# Altium integrated library Q-Resistors.IntLib: 917 symbols (part 8 of 8)
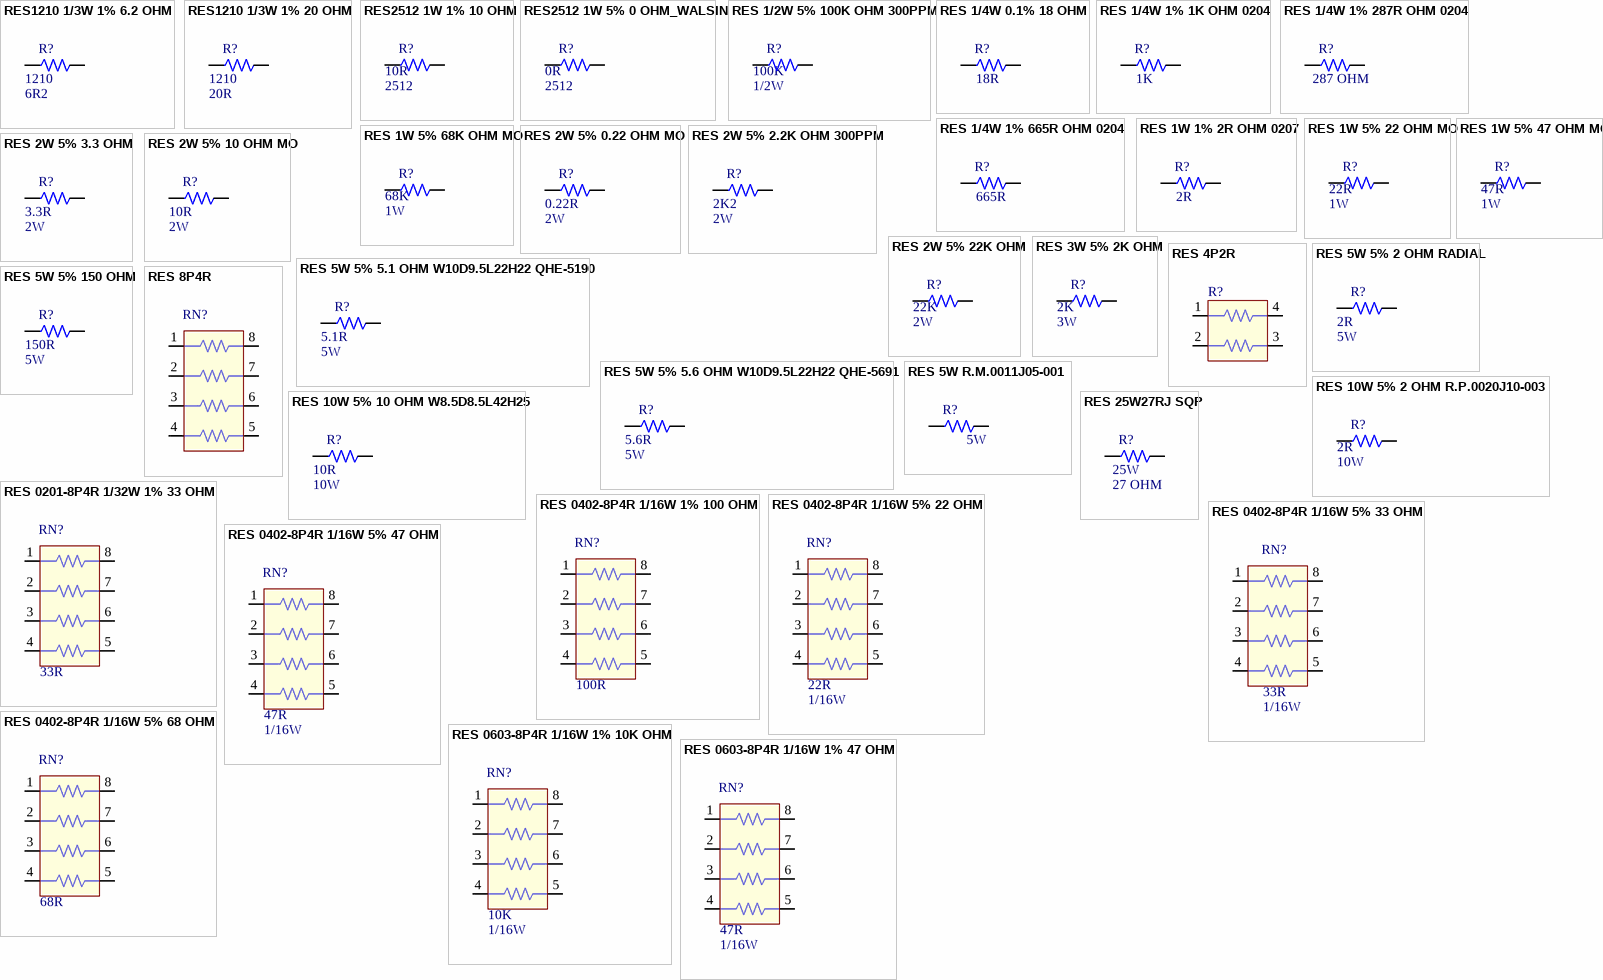
[diagram p29: symbols RES1210 1/3W 1% 6.2 OHM to RES 0603-8P4R 1/16W 1% 47 OHM]

## RES 3W 5% 2K OHM
designator R?  value 2K  Power: 3W
DIP 2K OHM MO 3W +-5%; MFG Part: RES 3W 5% 2K OHM; TOL: 5%; MFG: QING YUAN (晴遠); Vendor Code: 10010262; Vendor Name: 东莞市晴远电子有限公司; CREATE_NAME: Nathan; SAP: *; Package: 3W; Type: Resistor; DIP&SMD: DIP; Customer Specific: N/A; CREATE_TIME: 08-Jul-2021
footprint 3W-V-1 (Resistor,Axial,3W  L17mm W6mm)
footprint 3W-V (Resistor,Axial,3W  L17mm W6mm)
footprint 3W-H (Resistor,Axial,3W  L17mm W6mm)
pins: 1, 2

## RES 4P2R
designator R?
pins: 1, 2, 3, 4

## RES 5W 5% 2 OHM RADIAL
designator R?, comment value 2R  Power: 5W  (hidden comment: QHE505001-2090)
RESISTOR 2 OHM 5% 5W WIREWOUND K; MFG Part: RES 5W 5% 2 OHM RADIAL; SAP: T710600011100; MFG: Xingdacheng; Vendor Code: 10008495; Vendor Name: 深圳市兴达诚电子有限公司; DIP&SMD: DIP; CREATE_NAME: Nathan; Package: 5W; TOL: 5%; Type: Resistor; Customer Specific: N/A; CREATE_TIME: 11-04-2019
footprint 5W-12X9 PH=6MM (Resistor,5W pitch 6mm  W 12mm LX9mmH25(max.))
pins: 1, 2

## RES 5W 5% 5.1 OHM W10D9.5L22H22 QHE-5190
designator R?, comment value 5.1R  Power: 5W  (hidden comment: QHE505000-5190)
CEMENT RESISTOR 5.1OHM 5W 5% AXIAL; MFG Part: RES 5W 5% 5.1 OHM W10D9.5L22H22 QHE; SAP: T710600010200; MFG: Xingdacheng; Vendor Code: 10008495; Vendor Name: 深圳市兴达诚电子有限公司; DIP&SMD: DIP; Package: 5W; TOL: 5%; Type: Resistor; Customer Specific: N/A
footprint 5W-22X10-V-2 (Resistor,Axial,Vertical, 5W 7.62mm C X 1.2 W 22mm LX10mm)
footprint 5W-22X10-V-1 (Resistor,Axial,Vertical, 5W 7.62mm C X 1.2 W 22mm LX10mm)
footprint 5W-22X10-H (Resistor,Axial,5W 25.4mm C X 1.2 W 22mm LX10mm)
pins: 1, 2

## RES 5W 5% 5.6 OHM W10D9.5L22H22 QHE-5691
designator R?, comment value 5.6R  Power: 5W  (hidden comment: QHE505000-5691)
CEMENT RESISTOR 5.6 OHM 5W 5% AXIAL; MFG Part: RES 5W 5% 5.6 OHM W10D9.5L22H22 QHE; SAP: T710600010300; MFG: Xingdacheng; Vendor Code: 10008495; Vendor Name: 深圳市兴达诚电子有限公司; DIP&SMD: DIP; Package: 5W; TOL: 5%; Type: Resistor; Customer Specific: N/A
footprint 5W-22X10-V-2 (Resistor,Axial,Vertical, 5W 7.62mm C X 1.2 W 22mm LX10mm)
footprint 5W-22X10-V-1 (Resistor,Axial,Vertical, 5W 7.62mm C X 1.2 W 22mm LX10mm)
footprint 5W-22X10-H (Resistor,Axial,5W 25.4mm C X 1.2 W 22mm LX10mm)
pins: 1, 2

## RES 5W 5% 150 OHM
designator R?, comment value 150R  Power: 5W  (hidden comment: QEO505000-1510)
METAL OXIDE FILM RES 150 OHM 5W 5%; MFG Part: RES 5W 5% 150 OHM; SAP: T5130151158DD; MFG: 晴远; Vendor Code: 10010262; Vendor Name: 东莞市晴远电子有限公司; DIP&SMD: DIP; Package: 5W; TOL: 5%; Type: Resistor; Customer Specific: N/A
footprint 5W-D8L24-H (Resistor,5W pitch 33mm C 1.2mm L 24mm X D8mm H9mm)
footprint 5W-D8L24-V (Resistor,5W pitch 7.62mm C 1.2mm L 24mm X D8mm H25mm)
pins: 1, 2

## RES 5W R.M.0011J05-001
designator R?  Power: 5W
RESISTOR  5W R.M.0011J05-001; TOL: 5%; MFG: HINGTAT; DIP&SMD: DIP; CREATE_NAME: Nathan; SAP: *; Package: 5W; MFG Part: R.M.0011J05-001; Vendor Code: *; Vendor Name: *; Type: Resistor; Customer Specific: N/A; CREATE_TIME: 09-Mar-2021; Value: *
footprint 5W-13X9.5 PH=6MM (Resistor,5W pitch 6mm  W 13mm TX9.5mmH25(max.))
pins: 1, 2

## RES 8P4R
designator RN?
pins: 1, 2, 3, 4, 5, 6, 7, 8

## RES 10W 5% 2 OHM R.P.0020J10-003
designator R?, comment value 2R  Power: 10W  (hidden comment: T710600023000)
RESISTOR 10W 2RJ SQP R.P.0020J10-003 K; TOL: 5%; MFG: Xingdacheng; CREATE_NAME: Tom; DIP&SMD: DIP; SAP: T710600023000; Package: 10W; MFG Part: R.P.0020J10-003; CREATE_TIME: 08-Oct-2019; Type: Resistor; Customer Specific: N/A
footprint 10W-48X10-H (Resistor,10W pitch 51.4mm C X 1.2 W 48mm LX10mmH10)
pins: 1, 2

## RES 10W 5% 10 OHM W8.5D8.5L42H25
designator R?, comment value 10R  Power: 10W  (hidden comment: T511010015B5D)
DIP 10 OHM 500PPM 10W +-5% QING K; MFG Part: RES 10W 5% 10 OHM; TOL: 5%; MFG: QING YUAN (晴遠); CREATE_NAME: Nathan; SAP: T511010015B5D; Package: 10W; Vendor Code: *; Vendor Name: *; Type: Resistor; CREATE_TIME: 14-Aug-2017; DIP&SMD: DIP; Customer Specific: N/A
footprint 10W-48X10-H (Resistor,10W pitch 51.4mm C X 1.2 W 48mm LX10mmH10)
pins: 1, 2

## RES 25W27RJ SQP
designator R?, comment value 27 OHM  Power: 25W  (hidden comment: T710600021800)
RESISTOR 25W 27RJ SQP R.P.0270J20-001 K; TOL: 5%; MFG: XINGDACHENG; CREATE_NAME: Tom; DIP&SMD: DIP; SAP: T710600021800; Package: *; MFG Part: R.P.0270J20-001; Vendor Code: *; Vendor Name: *; Type: Resistor; CREATE_TIME: 05-Jun-2018
footprint RES 25W27RJ SQP
pins: 1, 2

## RES 0201-8P4R 1/32W 1% 33 OHM
designator RN?  value 33R
WA02A330FTL; TOL: 1%; MFG: WALSIN; DIP&SMD: SMD; CREATE_NAME: Nathan; Power: 1/32W; SAP: *; Package: 8P4R; MFG Part: WA02A330FTL; Vendor Code: *; Vendor Name: *; Type: Resistor; Customer Specific: N/A; CREATE_TIME: 17-Mar-2021
footprint 8P4R-0201 (Resistor,Chip Array,0.40mm pitch;8 pin,0.6mm W X 1.4mm L X 0.35mm H)
pins: 1, 2, 3, 4, 5, 6, 7, 8

## RES 0402-8P4R 1/16W 1% 100 OHM
designator RN?  value 100R
NET B 100R OHM 0402 8P4R 1% WA04X1000FTL; MFG: WALSIN; DIP&SMD: SMD; CREATE_NAME: Nathan; Power: 1/16W; SAP: *; Package: 8P4R; TOL: 1%; MFG Part: WA04X1000FTL; Vendor Code: *; Vendor Name: *; Type: Resistor; Customer Specific: N/A; CREATE_TIME: 17-Nov-2020
footprint 8P4R-0402 (Resistor,Chip Array,0.80mm pitch;8 pin,1.60mm W X 3.20mm L X 0.70mm H)
pins: 1, 2, 3, 4, 5, 6, 7, 8

## RES 0402-8P4R 1/16W 5% 22 OHM
designator RN?, comment value 22R  Power: 1/16W  (hidden comment: QCA165240-2209)
RES.ARRAY 22 OHM 1/16W 5% 0402 8P4R; MFG Part: WA04X220J; SAP: T521022001108; MFG: WALSIN; DIP&SMD: SMD; Package: 8P4R; TOL: 5%; Vendor Code: *; Vendor Name: *; Type: Resistor; Customer Specific: N/A
footprint 8P4R-0402 (Resistor,Chip Array,0.80mm pitch;8 pin,1.60mm W X 3.20mm L X 0.70mm H)
pins: 1, 2, 3, 4, 5, 6, 7, 8

## RES 0402-8P4R 1/16W 5% 33 OHM
designator RN?  value 33R  Power: 1/16W  (hidden comment: *)
RES ARRAY 4 RES 33R 0804; MFG Part: WA04X33R0FTL; TOL: 5%; MFG: WALSIN; DIP&SMD: SMD; SAP: *; Package: 8P4R; Vendor Code: *; Vendor Name: *; Type: Resistor; Customer Specific: N/A
footprint 8P4R-0402 (Resistor,Chip Array,0.80mm pitch;8 pin,1.60mm W X 3.20mm L X 0.70mm H)
pins: 1, 2, 3, 4, 5, 6, 7, 8
1 alternate drawing of the same symbol

## RES 0402-8P4R 1/16W 5% 47 OHM
designator RN?, comment value 47R  Power: 1/16W  (hidden comment: QCA165240-4709)
RES.ARRAY 47 OHM 1/16W 5% 0402 8P4R; MFG Part: WA04X470J; SAP: T521047000801; MFG: WALSIN; DIP&SMD: SMD; Package: 8P4R; TOL: 5%; Vendor Code: *; Vendor Name: *; Type: Resistor; Customer Specific: N/A
footprint 8P4R-0402 (Resistor,Chip Array,0.80mm pitch;8 pin,1.60mm W X 3.20mm L X 0.70mm H)
pins: 1, 2, 3, 4, 5, 6, 7, 8

## RES 0402-8P4R 1/16W 5% 68 OHM
designator RN?, comment value 68R  (hidden comment: T521068000108)
NET B 68 OHM 0402 8P4R 5% WA04X680 JTL K; MFG: WALSIN; DIP&SMD: SMD; CREATE_NAME: Nathan; Power: 1/16W; SAP: T521068000108; Package: 8P4R; TOL: 5%; MFG Part: WA04X680 JTL; Vendor Code: *; Vendor Name: *; Type: Resistor; Customer Specific: N/A; CREATE_TIME: 07-Oct-2019
footprint 8P4R-0402 (Resistor,Chip Array,0.80mm pitch;8 pin,1.60mm W X 3.20mm L X 0.70mm H)
pins: 1, 2, 3, 4, 5, 6, 7, 8

## RES 0603-8P4R 1/16W 1% 10K OHM
designator RN?, comment value 10K  Power: 1/16W  (hidden comment: QCA161340-1002)
CHIIP RES ARRAY 10K 1/16W 1% 0603 8P4R; MFG Part: RES 0603-8P4R 1/16W 1% 10K OHM; SAP: T521100200301; MFG: 晴远; Vendor Code: 10010262; Vendor Name: 东莞市晴远电子有限公司; DIP&SMD: SMD; Package: 8P4R; TOL: 1%; Type: Resistor; Customer Specific: N/A
footprint 8P4R-0603 (Resistor,Chip Array,0.80mm pitch;8 pin,1.60mm W X 3.20mm L X 0.70mm H)
pins: 1, 2, 3, 4, 5, 6, 7, 8

## RES 0603-8P4R 1/16W 1% 47 OHM
designator RN?, comment value 47R  Power: 1/16W  (hidden comment: QCA161340-4709)
RES ARRAY 47 OHM 1/16W 1% 0603 8P4R; MFG Part: RES 0603-8P4R 1/16W 1% 47 OHM; SAP: T521470A00101; MFG: 晴远; Vendor Code: 10010262; Vendor Name: 东莞市晴远电子有限公司; DIP&SMD: SMD; Package: 8P4R; TOL: 1%; Type: Resistor; Customer Specific: N/A
footprint 8P4R-0603 (Resistor,Chip Array,0.80mm pitch;8 pin,1.60mm W X 3.20mm L X 0.70mm H)
pins: 1, 2, 3, 4, 5, 6, 7, 8